# Altium schematic symbol library NXP.SchLib: 1 symbol
Pins are listed as number, name and electrical type; pins without a type are passive.

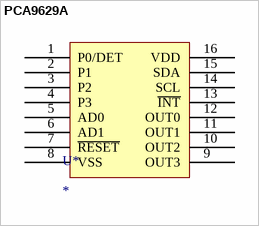
[diagram p0: symbol PCA9629A]

## PCA9629A
designator U*
Fm+ I2C-bus advanced stepper motor controller
footprint TSSOP16 (Plastic thin shrink small outline package)
pins: 1 P0/DET, 2 P1, 3 P2, 4 P3, 5 AD0, 6 AD1, 7 ~{RESET}, 8 VSS, 9 OUT3, 10 OUT2, 11 OUT1, 12 OUT0, 13 ~{INT}, 14 SCL, 15 SDA, 16 VDD